# Altium integrated library Linear Technology Power Management uModule Regulators.IntLib: 166 symbols (part 26 of 67)
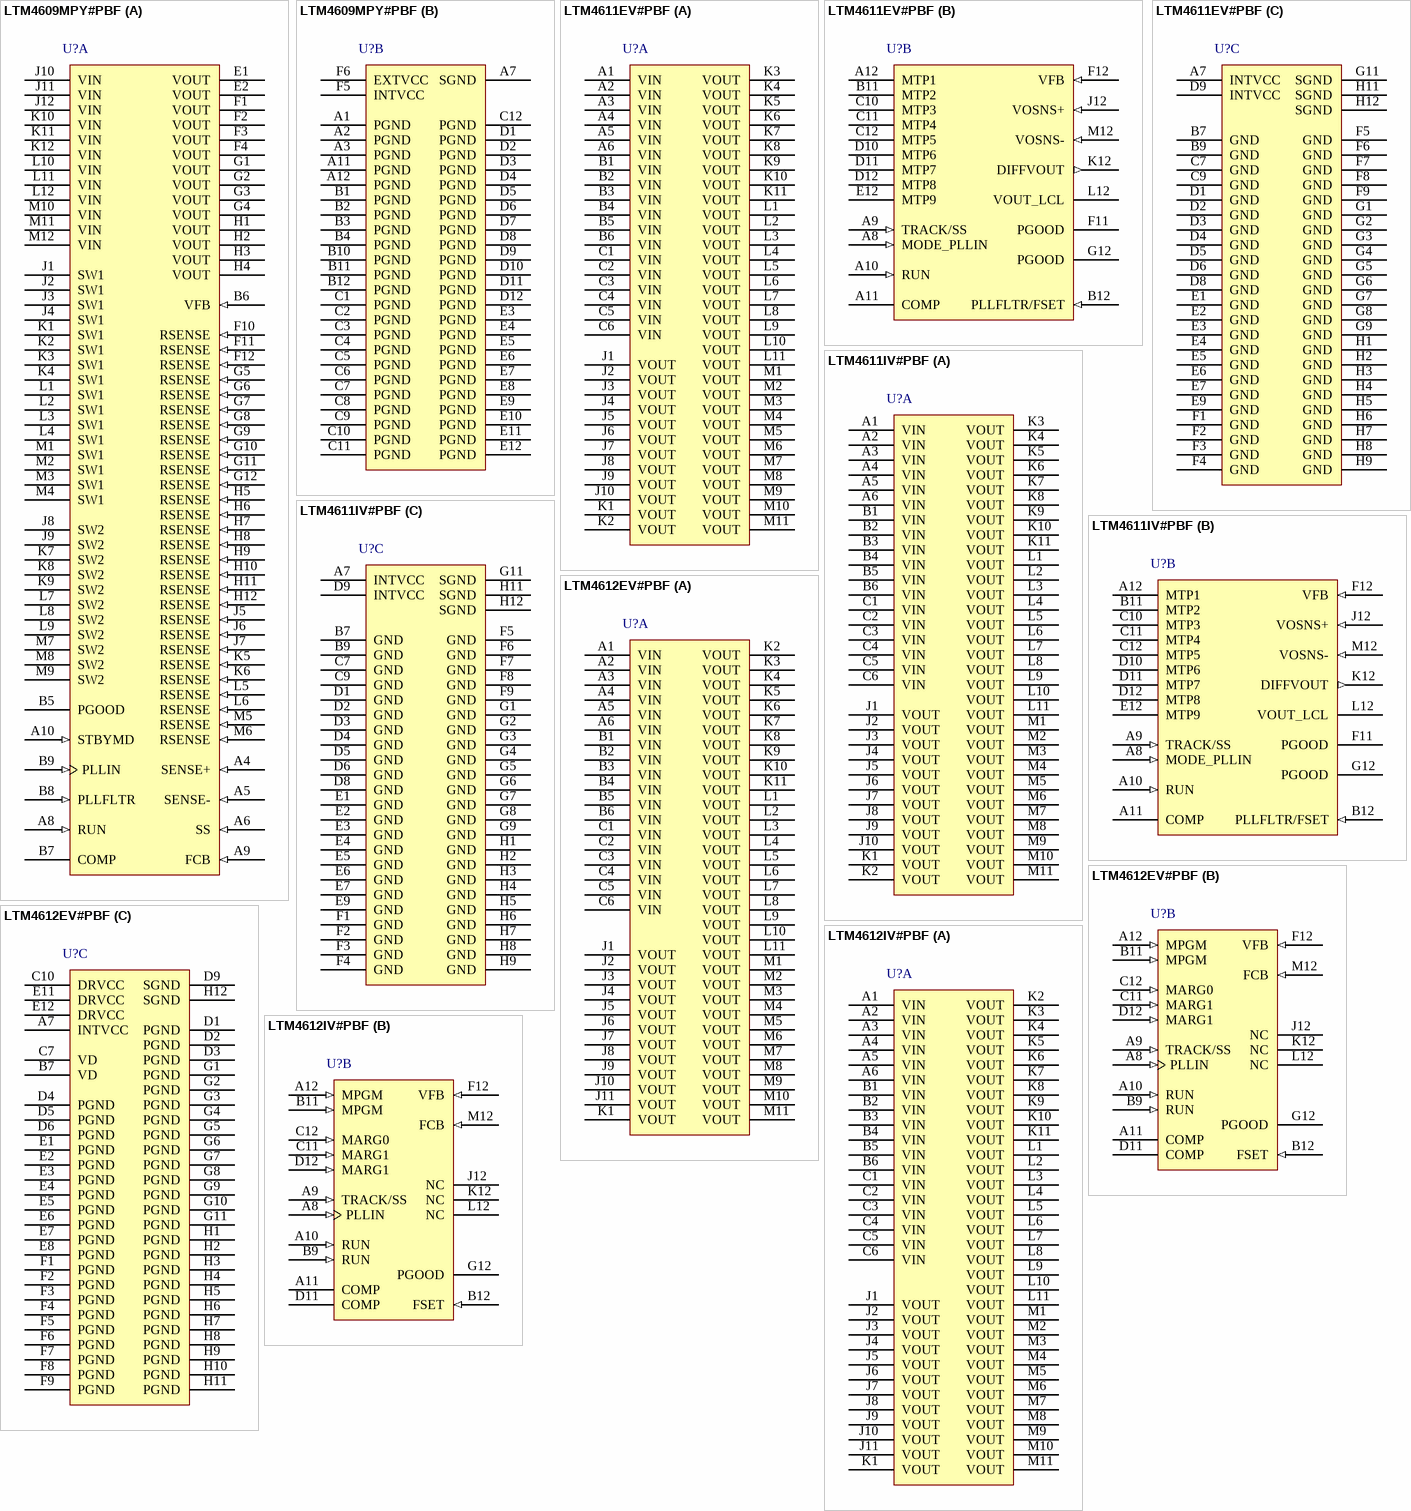
[diagram p52: symbols LTM4609MPY#PBF to LTM4612IV#PBF]

## LTM4611EV#PBF
designator U?
Ultralow VIN, 15 A DC/DC uModule Regulator, 133-pin LGA, -40 to 125 degC, Pb-Free, Tray; Manufacturer: Linear Technology; PartNumber: LTM4611EV#PBF; Extended Temp: E, I; Frequency Sync Range: 360kHz - 710kHz; Ishutdown(uA): 1.1; Isupply(mA): 70; Number of Outputs: 1; Output Current(A): 15; Switch Current(A): 30; Synchronous: yes; Topology: Buck; Vin Max(V): 5.5; Vin Min(V): 1.5; Vout Max(V): 5; Vout Min(V): 0.8; DatasheetVersion: Rev. B; PackageVersion: Rev. A, 02/2013; PackageReference: LGA-133; PackageDescription: 133-Pin LGA, Body 15 x 15 mm, Pitch 1.27 mm; Supplier 1: Digi-Key; Supplier Part Number 1: LTM4611EV#PBF-ND; Supplier 2: Farnell; Supplier Part Number 2: 2115881; Supplier 3: Farnell; Supplier Part Number 3: 1833470; Supplier 4: Newark; Supplier Part Number 4: 76R0904; Packing: Tray; RoHS: TRUE; Tracking: yes; Mounting Technology: Surface Mount; Code_JEDEC: MO-222; ComponentLink1Description: Manufacturer URL; ComponentLink1URL: http://www.linear.com/; ComponentLink2Description: Datasheet; ComponentLink2URL: http://cds.linear.com/docs/en/datasheet/4611fb.pdf; ComponentLink3Description: Package Specification; ComponentLink3URL: http://cds.linear.com/docs/en/packaging/05081777_A_lga133.pdf
footprint LT-LGA-133-05-08-1777_V (LGA, 133-Leads, Body 15x15mm, Pitch 1.27mm)
part A pins: A1 VIN (power) "Power Input Pins. Apply input voltage between these pins and GND pins. Recommend placing input decoupling capacitance directly between VIN pins and GND pins.", A2 VIN (power) "Power Input Pins. Apply input voltage between these pins and GND pins. Recommend placing input decoupling capacitance directly between VIN pins and GND pins.", A3 VIN (power) "Power Input Pins. Apply input voltage between these pins and GND pins. Recommend placing input decoupling capacitance directly between VIN pins and GND pins.", A4 VIN (power) "Power Input Pins. Apply input voltage between these pins and GND pins. Recommend placing input decoupling capacitance directly between VIN pins and GND pins.", A5 VIN (power) "Power Input Pins. Apply input voltage between these pins and GND pins. Recommend placing input decoupling capacitance directly between VIN pins and GND pins.", A6 VIN (power) "Power Input Pins. Apply input voltage between these pins and GND pins. Recommend placing input decoupling capacitance directly between VIN pins and GND pins.", B1 VIN (power) "Power Input Pins. Apply input voltage between these pins and GND pins. Recommend placing input decoupling capacitance directly between VIN pins and GND pins.", B2 VIN (power) "Power Input Pins. Apply input voltage between these pins and GND pins. Recommend placing input decoupling capacitance directly between VIN pins and GND pins.", B3 VIN (power) "Power Input Pins. Apply input voltage between these pins and GND pins. Recommend placing input decoupling capacitance directly between VIN pins and GND pins.", B4 VIN (power) "Power Input Pins. Apply input voltage between these pins and GND pins. Recommend placing input decoupling capacitance directly between VIN pins and GND pins.", B5 VIN (power) "Power Input Pins. Apply input voltage between these pins and GND pins. Recommend placing input decoupling capacitance directly between VIN pins and GND pins.", B6 VIN (power) "Power Input Pins. Apply input voltage between these pins and GND pins. Recommend placing input decoupling capacitance directly between VIN pins and GND pins.", C1 VIN (power) "Power Input Pins. Apply input voltage between these pins and GND pins. Recommend placing input decoupling capacitance directly between VIN pins and GND pins.", C2 VIN (power) "Power Input Pins. Apply input voltage between these pins and GND pins. Recommend placing input decoupling capacitance directly between VIN pins and GND pins.", C3 VIN (power) "Power Input Pins. Apply input voltage between these pins and GND pins. Recommend placing input decoupling capacitance directly between VIN pins and GND pins.", C4 VIN (power) "Power Input Pins. Apply input voltage between these pins and GND pins. Recommend placing input decoupling capacitance directly between VIN pins and GND pins.", C5 VIN (power) "Power Input Pins. Apply input voltage between these pins and GND pins. Recommend placing input decoupling capacitance directly between VIN pins and GND pins.", C6 VIN (power) "Power Input Pins. Apply input voltage between these pins and GND pins. Recommend placing input decoupling capacitance directly between VIN pins and GND pins.", J1 VOUT (power) "Power Output Pins. Apply output load between these pins and GND pins. Recommend placing output decoupling capacitance directly between these pins and GND pins. Review Table 5.", J2 VOUT (power) "Power Output Pins. Apply output load between these pins and GND pins. Recommend placing output decoupling capacitance directly between these pins and GND pins. Review Table 5.", J3 VOUT (power) "Power Output Pins. Apply output load between these pins and GND pins. Recommend placing output decoupling capacitance directly between these pins and GND pins. Review Table 5.", J4 VOUT (power) "Power Output Pins. Apply output load between these pins and GND pins. Recommend placing output decoupling capacitance directly between these pins and GND pins. Review Table 5.", J5 VOUT (power) "Power Output Pins. Apply output load between these pins and GND pins. Recommend placing output decoupling capacitance directly between these pins and GND pins. Review Table 5.", J6 VOUT (power) "Power Output Pins. Apply output load between these pins and GND pins. Recommend placing output decoupling capacitance directly between these pins and GND pins. Review Table 5.", J7 VOUT (power) "Power Output Pins. Apply output load between these pins and GND pins. Recommend placing output decoupling capacitance directly between these pins and GND pins. Review Table 5.", J8 VOUT (power) "Power Output Pins. Apply output load between these pins and GND pins. Recommend placing output decoupling capacitance directly between these pins and GND pins. Review Table 5.", J9 VOUT (power) "Power Output Pins. Apply output load between these pins and GND pins. Recommend placing output decoupling capacitance directly between these pins and GND pins. Review Table 5.", J10 VOUT (power) "Power Output Pins. Apply output load between these pins and GND pins. Recommend placing output decoupling capacitance directly between these pins and GND pins. Review Table 5.", K1 VOUT (power) "Power Output Pins. Apply output load between these pins and GND pins. Recommend placing output decoupling capacitance directly between these pins and GND pins. Review Table 5.", K2 VOUT (power) "Power Output Pins. Apply output load between these pins and GND pins. Recommend placing output decoupling capacitance directly between these pins and GND pins. Review Table 5.", K3 VOUT (power) "Power Output Pins. Apply output load between these pins and GND pins. Recommend placing output decoupling capacitance directly between these pins and GND pins. Review Table 5.", K4 VOUT (power) "Power Output Pins. Apply output load between these pins and GND pins. Recommend placing output decoupling capacitance directly between these pins and GND pins. Review Table 5.", K5 VOUT (power) "Power Output Pins. Apply output load between these pins and GND pins. Recommend placing output decoupling capacitance directly between these pins and GND pins. Review Table 5.", K6 VOUT (power) "Power Output Pins. Apply output load between these pins and GND pins. Recommend placing output decoupling capacitance directly between these pins and GND pins. Review Table 5.", K7 VOUT (power) "Power Output Pins. Apply output load between these pins and GND pins. Recommend placing output decoupling capacitance directly between these pins and GND pins. Review Table 5.", K8 VOUT (power) "Power Output Pins. Apply output load between these pins and GND pins. Recommend placing output decoupling capacitance directly between these pins and GND pins. Review Table 5.", K9 VOUT (power) "Power Output Pins. Apply output load between these pins and GND pins. Recommend placing output decoupling capacitance directly between these pins and GND pins. Review Table 5.", K10 VOUT (power) "Power Output Pins. Apply output load between these pins and GND pins. Recommend placing output decoupling capacitance directly between these pins and GND pins. Review Table 5.", K11 VOUT (power) "Power Output Pins. Apply output load between these pins and GND pins. Recommend placing output decoupling capacitance directly between these pins and GND pins. Review Table 5.", L1 VOUT (power) "Power Output Pins. Apply output load between these pins and GND pins. Recommend placing output decoupling capacitance directly between these pins and GND pins. Review Table 5.", L2 VOUT (power) "Power Output Pins. Apply output load between these pins and GND pins. Recommend placing output decoupling capacitance directly between these pins and GND pins. Review Table 5.", L3 VOUT (power) "Power Output Pins. Apply output load between these pins and GND pins. Recommend placing output decoupling capacitance directly between these pins and GND pins. Review Table 5.", L4 VOUT (power) "Power Output Pins. Apply output load between these pins and GND pins. Recommend placing output decoupling capacitance directly between these pins and GND pins. Review Table 5.", L5 VOUT (power) "Power Output Pins. Apply output load between these pins and GND pins. Recommend placing output decoupling capacitance directly between these pins and GND pins. Review Table 5.", L6 VOUT (power) "Power Output Pins. Apply output load between these pins and GND pins. Recommend placing output decoupling capacitance directly between these pins and GND pins. Review Table 5.", L7 VOUT (power) "Power Output Pins. Apply output load between these pins and GND pins. Recommend placing output decoupling capacitance directly between these pins and GND pins. Review Table 5.", L8 VOUT (power) "Power Output Pins. Apply output load between these pins and GND pins. Recommend placing output decoupling capacitance directly between these pins and GND pins. Review Table 5.", L9 VOUT (power) "Power Output Pins. Apply output load between these pins and GND pins. Recommend placing output decoupling capacitance directly between these pins and GND pins. Review Table 5.", L10 VOUT (power) "Power Output Pins. Apply output load between these pins and GND pins. Recommend placing output decoupling capacitance directly between these pins and GND pins. Review Table 5.", L11 VOUT (power) "Power Output Pins. Apply output load between these pins and GND pins. Recommend placing output decoupling capacitance directly between these pins and GND pins. Review Table 5.", M1 VOUT (power) "Power Output Pins. Apply output load between these pins and GND pins. Recommend placing output decoupling capacitance directly between these pins and GND pins. Review Table 5.", M2 VOUT (power) "Power Output Pins. Apply output load between these pins and GND pins. Recommend placing output decoupling capacitance directly between these pins and GND pins. Review Table 5.", M3 VOUT (power) "Power Output Pins. Apply output load between these pins and GND pins. Recommend placing output decoupling capacitance directly between these pins and GND pins. Review Table 5.", M4 VOUT (power) "Power Output Pins. Apply output load between these pins and GND pins. Recommend placing output decoupling capacitance directly between these pins and GND pins. Review Table 5.", M5 VOUT (power) "Power Output Pins. Apply output load between these pins and GND pins. Recommend placing output decoupling capacitance directly between these pins and GND pins. Review Table 5.", M6 VOUT (power) "Power Output Pins. Apply output load between these pins and GND pins. Recommend placing output decoupling capacitance directly between these pins and GND pins. Review Table 5.", M7 VOUT (power) "Power Output Pins. Apply output load between these pins and GND pins. Recommend placing output decoupling capacitance directly between these pins and GND pins. Review Table 5.", M8 VOUT (power) "Power Output Pins. Apply output load between these pins and GND pins. Recommend placing output decoupling capacitance directly between these pins and GND pins. Review Table 5.", M9 VOUT (power) "Power Output Pins. Apply output load between these pins and GND pins. Recommend placing output decoupling capacitance directly between these pins and GND pins. Review Table 5.", M10 VOUT (power) "Power Output Pins. Apply output load between these pins and GND pins. Recommend placing output decoupling capacitance directly between these pins and GND pins. Review Table 5.", M11 VOUT (power) "Power Output Pins. Apply output load between these pins and GND pins. Recommend placing output decoupling capacitance directly between these pins and GND pins. Review Table 5."
part B pins: A8 MODE_PLLIN (in) "Forced Continuous Mode, Burst Mode Operation, or Pulse-Skipping Mode Selection Pin and External Synchronization Input to Phase Detector Pin. Connect this pin to GND to force continuous mode operation. Connect to INTVCC to (See Datasheet)", A9 TRACK/SS (in), A10 RUN (in) "Run Control Pin. A voltage above 1.35V will turn on in the module. The VIN undervoltage lockout (UVLO) of the LTM4611 must be set with resistor networks from VIN to RUN and optionally from RUN to GND. Tie all RUN pins (See Datasheet)", A11 COMP "Current Control Threshold and Error Amplifier Compensation Point. The current comparator threshold increases with this control voltage. Tie all COMP pins together for parallel operation. The device is internally compensated.", A12 MTP1 "Extra mounting pads used for increased solder integrity strength. Leave electrically open circuit.", B11 MTP2 "Extra mounting pads used for increased solder integrity strength. Leave electrically open circuit.", B12 PLLFLTR/FSET (in), C10 MTP3 "Extra mounting pads used for increased solder integrity strength. Leave electrically open circuit.", C11 MTP4 "Extra mounting pads used for increased solder integrity strength. Leave electrically open circuit.", C12 MTP5 "Extra mounting pads used for increased solder integrity strength. Leave electrically open circuit.", D10 MTP6 "Extra mounting pads used for increased solder integrity strength. Leave electrically open circuit.", D11 MTP7 "Extra mounting pads used for increased solder integrity strength. Leave electrically open circuit.", D12 MTP8 "Extra mounting pads used for increased solder integrity strength. Leave electrically open circuit.", E12 MTP9 "Extra mounting pads used for increased solder integrity strength. Leave electrically open circuit.", F11 PGOOD (oc) "Output Voltage Power Good Indicator. Open-drain logic output that is pulled to ground when the output voltage exceeds a +/-5% regulation window. Both pins are tied together internally.", F12 VFB (in) "The Negative Input of the Error Amplifier. Internally, this pin is connected to VOUT_LCL with a 60.4k precision resistor. Different output voltages can be programmed with an additional resistor between the VFB and GND pins. (See Datasheet)", G12 PGOOD (oc) "Output Voltage Power Good Indicator. Open-drain logic output that is pulled to ground when the output voltage exceeds a +/-5% regulation window. Both pins are tied together internally.", J12 VOSNS+ (in) "Input to the Remote Sense Amplifier. This pin connects to the output remote sense point. The remote sense amplifier is used for VOUT <= 3.7V. For VOUT > 3.7V, tie VOSNS + to GND to rail the output of the remote sense (See Datasheet)", K12 DIFFVOUT (out) "Output of the Remote Sense Amplifier. This pin connects to the VOUT_LCL pin for remote sense applications. Otherwise float when not used.", L12 VOUT_LCL "This pin connects to VOUT through a 1M resistor and to VFB with a 60.4k resistor. The remote sense amplifier output DIFFVOUT is connected to VOUT_LCL, and drives the 60.4k top feedback resistor in remote sensing applications.(See Datasheet)", M12 VOSNS- (in) "Input to the Remote Sense Amplifier. This pin connects to the ground remote sense point. The remote sense amplifier is used for VOUT<= 3.7 V. For VOUT > 3.7V, tie VOSNS - to INTVCC to rail the output of the remote sense (See Datasheet)"
part C pins: A7 INTVCC (power) "Internal 5V LDO for Driving the Control Circuitry and the Power MOSFET Drivers. Both pins are internally connected.", B7 GND (power) "Power Ground Pins for Both Input and Output Returns.", B9 GND (power) "Power Ground Pins for Both Input and Output Returns.", C7 GND (power) "Power Ground Pins for Both Input and Output Returns.", C9 GND (power) "Power Ground Pins for Both Input and Output Returns.", D1 GND (power) "Power Ground Pins for Both Input and Output Returns.", D2 GND (power) "Power Ground Pins for Both Input and Output Returns.", D3 GND (power) "Power Ground Pins for Both Input and Output Returns.", D4 GND (power) "Power Ground Pins for Both Input and Output Returns.", D5 GND (power) "Power Ground Pins for Both Input and Output Returns.", D6 GND (power) "Power Ground Pins for Both Input and Output Returns.", D8 GND (power) "Power Ground Pins for Both Input and Output Returns.", D9 INTVCC (power) "Internal 5V LDO for Driving the Control Circuitry and the Power MOSFET Drivers. Both pins are internally connected.", E1 GND (power) "Power Ground Pins for Both Input and Output Returns.", E2 GND (power) "Power Ground Pins for Both Input and Output Returns.", E3 GND (power) "Power Ground Pins for Both Input and Output Returns.", E4 GND (power) "Power Ground Pins for Both Input and Output Returns.", E5 GND (power) "Power Ground Pins for Both Input and Output Returns.", E6 GND (power) "Power Ground Pins for Both Input and Output Returns.", E7 GND (power) "Power Ground Pins for Both Input and Output Returns.", E9 GND (power) "Power Ground Pins for Both Input and Output Returns.", F1 GND (power) "Power Ground Pins for Both Input and Output Returns.", F2 GND (power) "Power Ground Pins for Both Input and Output Returns.", F3 GND (power) "Power Ground Pins for Both Input and Output Returns.", F4 GND (power) "Power Ground Pins for Both Input and Output Returns.", F5 GND (power) "Power Ground Pins for Both Input and Output Returns.", F6 GND (power) "Power Ground Pins for Both Input and Output Returns.", F7 GND (power) "Power Ground Pins for Both Input and Output Returns.", F8 GND (power) "Power Ground Pins for Both Input and Output Returns.", F9 GND (power) "Power Ground Pins for Both Input and Output Returns.", G1 GND (power) "Power Ground Pins for Both Input and Output Returns.", G2 GND (power) "Power Ground Pins for Both Input and Output Returns.", G3 GND (power) "Power Ground Pins for Both Input and Output Returns.", G4 GND (power) "Power Ground Pins for Both Input and Output Returns.", G5 GND (power) "Power Ground Pins for Both Input and Output Returns.", G6 GND (power) "Power Ground Pins for Both Input and Output Returns.", G7 GND (power) "Power Ground Pins for Both Input and Output Returns.", G8 GND (power) "Power Ground Pins for Both Input and Output Returns.", G9 GND (power) "Power Ground Pins for Both Input and Output Returns.", G11 SGND (power) "Signal Ground Pin. Return ground path for all analog and low power circuitry. Tie a single connection to the output capacitor GND in the application. See the layout guidelines in Figure 17.", H1 GND (power) "Power Ground Pins for Both Input and Output Returns.", H2 GND (power) "Power Ground Pins for Both Input and Output Returns.", H3 GND (power) "Power Ground Pins for Both Input and Output Returns.", H4 GND (power) "Power Ground Pins for Both Input and Output Returns.", H5 GND (power) "Power Ground Pins for Both Input and Output Returns.", H6 GND (power) "Power Ground Pins for Both Input and Output Returns.", H7 GND (power) "Power Ground Pins for Both Input and Output Returns.", H8 GND (power) "Power Ground Pins for Both Input and Output Returns.", H9 GND (power) "Power Ground Pins for Both Input and Output Returns.", H11 SGND (power) "Signal Ground Pin. Return ground path for all analog and low power circuitry. Tie a single connection to the output capacitor GND in the application. See the layout guidelines in Figure 17.", H12 SGND (power) "Signal Ground Pin. Return ground path for all analog and low power circuitry. Tie a single connection to the output capacitor GND in the application. See the layout guidelines in Figure 17."

## LTM4611IV#PBF
designator U?
Ultralow VIN, 15 A DC/DC uModule Regulator, 133-pin LGA, -40 to 125 degC, Pb-Free, Tray; Manufacturer: Linear Technology; PartNumber: LTM4611IV#PBF; Extended Temp: E, I; Frequency Sync Range: 360kHz - 710kHz; Ishutdown(uA): 1.1; Isupply(mA): 70; Number of Outputs: 1; Output Current(A): 15; Switch Current(A): 30; Synchronous: yes; Topology: Buck; Vin Max(V): 5.5; Vin Min(V): 1.5; Vout Max(V): 5; Vout Min(V): 0.8; DatasheetVersion: Rev. B; PackageVersion: Rev. A, 02/2013; PackageReference: LGA-133; PackageDescription: 133-Pin LGA, Body 15 x 15 mm, Pitch 1.27 mm; Supplier 1: Digi-Key; Supplier Part Number 1: LTM4611IV#PBF-ND; Supplier 2: Farnell; Supplier Part Number 2: 2115882; Supplier 3: Farnell; Supplier Part Number 3: 1833471; Supplier 4: Newark; Supplier Part Number 4: 76R0905; Packing: Tray; RoHS: TRUE; Tracking: yes; Mounting Technology: Surface Mount; Code_JEDEC: MO-222; ComponentLink1Description: Manufacturer URL; ComponentLink1URL: http://www.linear.com/; ComponentLink2Description: Datasheet; ComponentLink2URL: http://cds.linear.com/docs/en/datasheet/4611fb.pdf; ComponentLink3Description: Package Specification; ComponentLink3URL: http://cds.linear.com/docs/en/packaging/05081777_A_lga133.pdf
footprint LT-LGA-133-05-08-1777_V (LGA, 133-Leads, Body 15x15mm, Pitch 1.27mm)
part A pins: A1 VIN (power) "Power Input Pins. Apply input voltage between these pins and GND pins. Recommend placing input decoupling capacitance directly between VIN pins and GND pins.", A2 VIN (power) "Power Input Pins. Apply input voltage between these pins and GND pins. Recommend placing input decoupling capacitance directly between VIN pins and GND pins.", A3 VIN (power) "Power Input Pins. Apply input voltage between these pins and GND pins. Recommend placing input decoupling capacitance directly between VIN pins and GND pins.", A4 VIN (power) "Power Input Pins. Apply input voltage between these pins and GND pins. Recommend placing input decoupling capacitance directly between VIN pins and GND pins.", A5 VIN (power) "Power Input Pins. Apply input voltage between these pins and GND pins. Recommend placing input decoupling capacitance directly between VIN pins and GND pins.", A6 VIN (power) "Power Input Pins. Apply input voltage between these pins and GND pins. Recommend placing input decoupling capacitance directly between VIN pins and GND pins.", B1 VIN (power) "Power Input Pins. Apply input voltage between these pins and GND pins. Recommend placing input decoupling capacitance directly between VIN pins and GND pins.", B2 VIN (power) "Power Input Pins. Apply input voltage between these pins and GND pins. Recommend placing input decoupling capacitance directly between VIN pins and GND pins.", B3 VIN (power) "Power Input Pins. Apply input voltage between these pins and GND pins. Recommend placing input decoupling capacitance directly between VIN pins and GND pins.", B4 VIN (power) "Power Input Pins. Apply input voltage between these pins and GND pins. Recommend placing input decoupling capacitance directly between VIN pins and GND pins.", B5 VIN (power) "Power Input Pins. Apply input voltage between these pins and GND pins. Recommend placing input decoupling capacitance directly between VIN pins and GND pins.", B6 VIN (power) "Power Input Pins. Apply input voltage between these pins and GND pins. Recommend placing input decoupling capacitance directly between VIN pins and GND pins.", C1 VIN (power) "Power Input Pins. Apply input voltage between these pins and GND pins. Recommend placing input decoupling capacitance directly between VIN pins and GND pins.", C2 VIN (power) "Power Input Pins. Apply input voltage between these pins and GND pins. Recommend placing input decoupling capacitance directly between VIN pins and GND pins.", C3 VIN (power) "Power Input Pins. Apply input voltage between these pins and GND pins. Recommend placing input decoupling capacitance directly between VIN pins and GND pins.", C4 VIN (power) "Power Input Pins. Apply input voltage between these pins and GND pins. Recommend placing input decoupling capacitance directly between VIN pins and GND pins.", C5 VIN (power) "Power Input Pins. Apply input voltage between these pins and GND pins. Recommend placing input decoupling capacitance directly between VIN pins and GND pins.", C6 VIN (power) "Power Input Pins. Apply input voltage between these pins and GND pins. Recommend placing input decoupling capacitance directly between VIN pins and GND pins.", J1 VOUT (power) "Power Output Pins. Apply output load between these pins and GND pins. Recommend placing output decoupling capacitance directly between these pins and GND pins. Review Table 5.", J2 VOUT (power) "Power Output Pins. Apply output load between these pins and GND pins. Recommend placing output decoupling capacitance directly between these pins and GND pins. Review Table 5.", J3 VOUT (power) "Power Output Pins. Apply output load between these pins and GND pins. Recommend placing output decoupling capacitance directly between these pins and GND pins. Review Table 5.", J4 VOUT (power) "Power Output Pins. Apply output load between these pins and GND pins. Recommend placing output decoupling capacitance directly between these pins and GND pins. Review Table 5.", J5 VOUT (power) "Power Output Pins. Apply output load between these pins and GND pins. Recommend placing output decoupling capacitance directly between these pins and GND pins. Review Table 5.", J6 VOUT (power) "Power Output Pins. Apply output load between these pins and GND pins. Recommend placing output decoupling capacitance directly between these pins and GND pins. Review Table 5.", J7 VOUT (power) "Power Output Pins. Apply output load between these pins and GND pins. Recommend placing output decoupling capacitance directly between these pins and GND pins. Review Table 5.", J8 VOUT (power) "Power Output Pins. Apply output load between these pins and GND pins. Recommend placing output decoupling capacitance directly between these pins and GND pins. Review Table 5.", J9 VOUT (power) "Power Output Pins. Apply output load between these pins and GND pins. Recommend placing output decoupling capacitance directly between these pins and GND pins. Review Table 5.", J10 VOUT (power) "Power Output Pins. Apply output load between these pins and GND pins. Recommend placing output decoupling capacitance directly between these pins and GND pins. Review Table 5.", K1 VOUT (power) "Power Output Pins. Apply output load between these pins and GND pins. Recommend placing output decoupling capacitance directly between these pins and GND pins. Review Table 5.", K2 VOUT (power) "Power Output Pins. Apply output load between these pins and GND pins. Recommend placing output decoupling capacitance directly between these pins and GND pins. Review Table 5.", K3 VOUT (power) "Power Output Pins. Apply output load between these pins and GND pins. Recommend placing output decoupling capacitance directly between these pins and GND pins. Review Table 5.", K4 VOUT (power) "Power Output Pins. Apply output load between these pins and GND pins. Recommend placing output decoupling capacitance directly between these pins and GND pins. Review Table 5.", K5 VOUT (power) "Power Output Pins. Apply output load between these pins and GND pins. Recommend placing output decoupling capacitance directly between these pins and GND pins. Review Table 5.", K6 VOUT (power) "Power Output Pins. Apply output load between these pins and GND pins. Recommend placing output decoupling capacitance directly between these pins and GND pins. Review Table 5.", K7 VOUT (power) "Power Output Pins. Apply output load between these pins and GND pins. Recommend placing output decoupling capacitance directly between these pins and GND pins. Review Table 5.", K8 VOUT (power) "Power Output Pins. Apply output load between these pins and GND pins. Recommend placing output decoupling capacitance directly between these pins and GND pins. Review Table 5.", K9 VOUT (power) "Power Output Pins. Apply output load between these pins and GND pins. Recommend placing output decoupling capacitance directly between these pins and GND pins. Review Table 5.", K10 VOUT (power) "Power Output Pins. Apply output load between these pins and GND pins. Recommend placing output decoupling capacitance directly between these pins and GND pins. Review Table 5.", K11 VOUT (power) "Power Output Pins. Apply output load between these pins and GND pins. Recommend placing output decoupling capacitance directly between these pins and GND pins. Review Table 5.", L1 VOUT (power) "Power Output Pins. Apply output load between these pins and GND pins. Recommend placing output decoupling capacitance directly between these pins and GND pins. Review Table 5.", L2 VOUT (power) "Power Output Pins. Apply output load between these pins and GND pins. Recommend placing output decoupling capacitance directly between these pins and GND pins. Review Table 5.", L3 VOUT (power) "Power Output Pins. Apply output load between these pins and GND pins. Recommend placing output decoupling capacitance directly between these pins and GND pins. Review Table 5.", L4 VOUT (power) "Power Output Pins. Apply output load between these pins and GND pins. Recommend placing output decoupling capacitance directly between these pins and GND pins. Review Table 5.", L5 VOUT (power) "Power Output Pins. Apply output load between these pins and GND pins. Recommend placing output decoupling capacitance directly between these pins and GND pins. Review Table 5.", L6 VOUT (power) "Power Output Pins. Apply output load between these pins and GND pins. Recommend placing output decoupling capacitance directly between these pins and GND pins. Review Table 5.", L7 VOUT (power) "Power Output Pins. Apply output load between these pins and GND pins. Recommend placing output decoupling capacitance directly between these pins and GND pins. Review Table 5.", L8 VOUT (power) "Power Output Pins. Apply output load between these pins and GND pins. Recommend placing output decoupling capacitance directly between these pins and GND pins. Review Table 5.", L9 VOUT (power) "Power Output Pins. Apply output load between these pins and GND pins. Recommend placing output decoupling capacitance directly between these pins and GND pins. Review Table 5.", L10 VOUT (power) "Power Output Pins. Apply output load between these pins and GND pins. Recommend placing output decoupling capacitance directly between these pins and GND pins. Review Table 5.", L11 VOUT (power) "Power Output Pins. Apply output load between these pins and GND pins. Recommend placing output decoupling capacitance directly between these pins and GND pins. Review Table 5.", M1 VOUT (power) "Power Output Pins. Apply output load between these pins and GND pins. Recommend placing output decoupling capacitance directly between these pins and GND pins. Review Table 5.", M2 VOUT (power) "Power Output Pins. Apply output load between these pins and GND pins. Recommend placing output decoupling capacitance directly between these pins and GND pins. Review Table 5.", M3 VOUT (power) "Power Output Pins. Apply output load between these pins and GND pins. Recommend placing output decoupling capacitance directly between these pins and GND pins. Review Table 5.", M4 VOUT (power) "Power Output Pins. Apply output load between these pins and GND pins. Recommend placing output decoupling capacitance directly between these pins and GND pins. Review Table 5.", M5 VOUT (power) "Power Output Pins. Apply output load between these pins and GND pins. Recommend placing output decoupling capacitance directly between these pins and GND pins. Review Table 5.", M6 VOUT (power) "Power Output Pins. Apply output load between these pins and GND pins. Recommend placing output decoupling capacitance directly between these pins and GND pins. Review Table 5.", M7 VOUT (power) "Power Output Pins. Apply output load between these pins and GND pins. Recommend placing output decoupling capacitance directly between these pins and GND pins. Review Table 5.", M8 VOUT (power) "Power Output Pins. Apply output load between these pins and GND pins. Recommend placing output decoupling capacitance directly between these pins and GND pins. Review Table 5.", M9 VOUT (power) "Power Output Pins. Apply output load between these pins and GND pins. Recommend placing output decoupling capacitance directly between these pins and GND pins. Review Table 5.", M10 VOUT (power) "Power Output Pins. Apply output load between these pins and GND pins. Recommend placing output decoupling capacitance directly between these pins and GND pins. Review Table 5.", M11 VOUT (power) "Power Output Pins. Apply output load between these pins and GND pins. Recommend placing output decoupling capacitance directly between these pins and GND pins. Review Table 5."
part B pins: A8 MODE_PLLIN (in) "Forced Continuous Mode, Burst Mode Operation, or Pulse-Skipping Mode Selection Pin and External Synchronization Input to Phase Detector Pin. Connect this pin to GND to force continuous mode operation. Connect to INTVCC to (See Datasheet)", A9 TRACK/SS (in), A10 RUN (in) "Run Control Pin. A voltage above 1.35V will turn on in the module. The VIN undervoltage lockout (UVLO) of the LTM4611 must be set with resistor networks from VIN to RUN and optionally from RUN to GND. Tie all RUN pins (See Datasheet)", A11 COMP "Current Control Threshold and Error Amplifier Compensation Point. The current comparator threshold increases with this control voltage. Tie all COMP pins together for parallel operation. The device is internally compensated.", A12 MTP1 "Extra mounting pads used for increased solder integrity strength. Leave electrically open circuit.", B11 MTP2 "Extra mounting pads used for increased solder integrity strength. Leave electrically open circuit.", B12 PLLFLTR/FSET (in), C10 MTP3 "Extra mounting pads used for increased solder integrity strength. Leave electrically open circuit.", C11 MTP4 "Extra mounting pads used for increased solder integrity strength. Leave electrically open circuit.", C12 MTP5 "Extra mounting pads used for increased solder integrity strength. Leave electrically open circuit.", D10 MTP6 "Extra mounting pads used for increased solder integrity strength. Leave electrically open circuit.", D11 MTP7 "Extra mounting pads used for increased solder integrity strength. Leave electrically open circuit.", D12 MTP8 "Extra mounting pads used for increased solder integrity strength. Leave electrically open circuit.", E12 MTP9 "Extra mounting pads used for increased solder integrity strength. Leave electrically open circuit.", F11 PGOOD (oc) "Output Voltage Power Good Indicator. Open-drain logic output that is pulled to ground when the output voltage exceeds a +/-5% regulation window. Both pins are tied together internally.", F12 VFB (in) "The Negative Input of the Error Amplifier. Internally, this pin is connected to VOUT_LCL with a 60.4k precision resistor. Different output voltages can be programmed with an additional resistor between the VFB and GND pins. (See Datasheet)", G12 PGOOD (oc) "Output Voltage Power Good Indicator. Open-drain logic output that is pulled to ground when the output voltage exceeds a +/-5% regulation window. Both pins are tied together internally.", J12 VOSNS+ (in) "Input to the Remote Sense Amplifier. This pin connects to the output remote sense point. The remote sense amplifier is used for VOUT <= 3.7V. For VOUT > 3.7V, tie VOSNS + to GND to rail the output of the remote sense (See Datasheet)", K12 DIFFVOUT (out) "Output of the Remote Sense Amplifier. This pin connects to the VOUT_LCL pin for remote sense applications. Otherwise float when not used.", L12 VOUT_LCL "This pin connects to VOUT through a 1M resistor and to VFB with a 60.4k resistor. The remote sense amplifier output DIFFVOUT is connected to VOUT_LCL, and drives the 60.4k top feedback resistor in remote sensing applications.(See Datasheet)", M12 VOSNS- (in) "Input to the Remote Sense Amplifier. This pin connects to the ground remote sense point. The remote sense amplifier is used for VOUT<= 3.7 V. For VOUT > 3.7V, tie VOSNS - to INTVCC to rail the output of the remote sense (See Datasheet)"
part C pins: A7 INTVCC (power) "Internal 5V LDO for Driving the Control Circuitry and the Power MOSFET Drivers. Both pins are internally connected.", B7 GND (power) "Power Ground Pins for Both Input and Output Returns.", B9 GND (power) "Power Ground Pins for Both Input and Output Returns.", C7 GND (power) "Power Ground Pins for Both Input and Output Returns.", C9 GND (power) "Power Ground Pins for Both Input and Output Returns.", D1 GND (power) "Power Ground Pins for Both Input and Output Returns.", D2 GND (power) "Power Ground Pins for Both Input and Output Returns.", D3 GND (power) "Power Ground Pins for Both Input and Output Returns.", D4 GND (power) "Power Ground Pins for Both Input and Output Returns.", D5 GND (power) "Power Ground Pins for Both Input and Output Returns.", D6 GND (power) "Power Ground Pins for Both Input and Output Returns.", D8 GND (power) "Power Ground Pins for Both Input and Output Returns.", D9 INTVCC (power) "Internal 5V LDO for Driving the Control Circuitry and the Power MOSFET Drivers. Both pins are internally connected.", E1 GND (power) "Power Ground Pins for Both Input and Output Returns.", E2 GND (power) "Power Ground Pins for Both Input and Output Returns.", E3 GND (power) "Power Ground Pins for Both Input and Output Returns.", E4 GND (power) "Power Ground Pins for Both Input and Output Returns.", E5 GND (power) "Power Ground Pins for Both Input and Output Returns.", E6 GND (power) "Power Ground Pins for Both Input and Output Returns.", E7 GND (power) "Power Ground Pins for Both Input and Output Returns.", E9 GND (power) "Power Ground Pins for Both Input and Output Returns.", F1 GND (power) "Power Ground Pins for Both Input and Output Returns.", F2 GND (power) "Power Ground Pins for Both Input and Output Returns.", F3 GND (power) "Power Ground Pins for Both Input and Output Returns.", F4 GND (power) "Power Ground Pins for Both Input and Output Returns.", F5 GND (power) "Power Ground Pins for Both Input and Output Returns.", F6 GND (power) "Power Ground Pins for Both Input and Output Returns.", F7 GND (power) "Power Ground Pins for Both Input and Output Returns.", F8 GND (power) "Power Ground Pins for Both Input and Output Returns.", F9 GND (power) "Power Ground Pins for Both Input and Output Returns.", G1 GND (power) "Power Ground Pins for Both Input and Output Returns.", G2 GND (power) "Power Ground Pins for Both Input and Output Returns.", G3 GND (power) "Power Ground Pins for Both Input and Output Returns.", G4 GND (power) "Power Ground Pins for Both Input and Output Returns.", G5 GND (power) "Power Ground Pins for Both Input and Output Returns.", G6 GND (power) "Power Ground Pins for Both Input and Output Returns.", G7 GND (power) "Power Ground Pins for Both Input and Output Returns.", G8 GND (power) "Power Ground Pins for Both Input and Output Returns.", G9 GND (power) "Power Ground Pins for Both Input and Output Returns.", G11 SGND (power) "Signal Ground Pin. Return ground path for all analog and low power circuitry. Tie a single connection to the output capacitor GND in the application. See the layout guidelines in Figure 17.", H1 GND (power) "Power Ground Pins for Both Input and Output Returns.", H2 GND (power) "Power Ground Pins for Both Input and Output Returns.", H3 GND (power) "Power Ground Pins for Both Input and Output Returns.", H4 GND (power) "Power Ground Pins for Both Input and Output Returns.", H5 GND (power) "Power Ground Pins for Both Input and Output Returns.", H6 GND (power) "Power Ground Pins for Both Input and Output Returns.", H7 GND (power) "Power Ground Pins for Both Input and Output Returns.", H8 GND (power) "Power Ground Pins for Both Input and Output Returns.", H9 GND (power) "Power Ground Pins for Both Input and Output Returns.", H11 SGND (power) "Signal Ground Pin. Return ground path for all analog and low power circuitry. Tie a single connection to the output capacitor GND in the application. See the layout guidelines in Figure 17.", H12 SGND (power) "Signal Ground Pin. Return ground path for all analog and low power circuitry. Tie a single connection to the output capacitor GND in the application. See the layout guidelines in Figure 17."